# Altium schematic symbol library Maxim.SchLib: 3 symbols
Pins are listed as number, name and electrical type; pins without a type are passive.

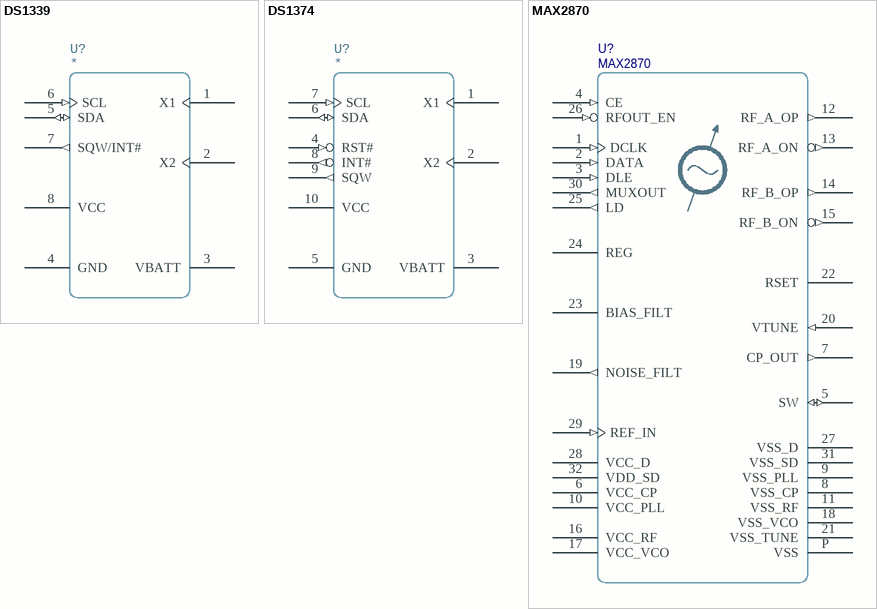
[diagram p0: symbols DS1339 to MAX2870]

## DS1339
designator U?
pins: 1 X1, 2 X2, 3 VBATT, 4 GND, 5 SDA (io), 6 SCL (in), 7 SQW/INT# (out), 8 VCC

## DS1374
designator U?
pins: 1 X1, 2 X2, 3 VBATT, 4 RST# (in), 5 GND, 6 SDA (io), 7 SCL (in), 8 INT# (out), 9 SQW (out), 10 VCC

## MAX2870
designator U?
Wideband Synthesizer with Integrated VCO; PartNumber: MAX2870ETJ+; Vendor: Maxim Semi; PinCountSMD: 33; PinCountHole: 0; Designer: shyul; PCBMarker: PLL; Value: MAX2870; Version: 1.0; VersionDate: 03-25-2014; SerialNumber: 0; Publisher: Shyu Lee
footprint QFN-5-32
pins: 1 DCLK (in), 2 DATA (in), 3 DLE (in), 4 CE (in), 5 SW (io), 6 VCC_CP, 7 CP_OUT (out), 8 VSS_CP, 9 VSS_PLL, 10 VCC_PLL, 11 VSS_RF, 12 RF_A_OP (out), 13 RF_A_ON (out), 14 RF_B_OP (out), 15 RF_B_ON (out), 16 VCC_RF, 17 VCC_VCO, 18 VSS_VCO, 19 NOISE_FILT (out), 20 VTUNE (in), 21 VSS_TUNE, 22 RSET, 23 BIAS_FILT, 24 REG, 25 LD (out), 26 RFOUT_EN (in), 27 VSS_D, 28 VCC_D, 29 REF_IN (in), 30 MUXOUT (out), 31 VSS_SD, 32 VDD_SD, P VSS
2 alternate drawings of the same symbol